# Altium schematic symbol library SCH - POWER - LINEAR VREG - TI LP2954AD.SchLib: 1 symbol
Pins are listed as number, name and electrical type; pins without a type are passive.

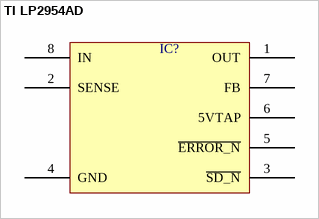
[diagram p0: symbol TI LP2954AD]

## TI LP2954AD
designator IC?  (value not drawn)
pins: 1 OUT, 2 SENSE, 3 ~{SD_N}, 4 GND, 5 ~{ERROR_N}, 6 5VTAP, 7 FB, 8 IN